# Altium footprint library PCB - CONNECTOR - WURTH - 61202021621.PcbLib: 1 footprints
Each footprint in its own frame and in the unit in brackets; x right, y up, seen from the top. Pads: shape width x height; smd on the part's side, far side on the other; paste and mask are expansions set on the pad; w line width, h text height; cw(c..) or ccw(c..) is an arc to the next point about the centre after c.
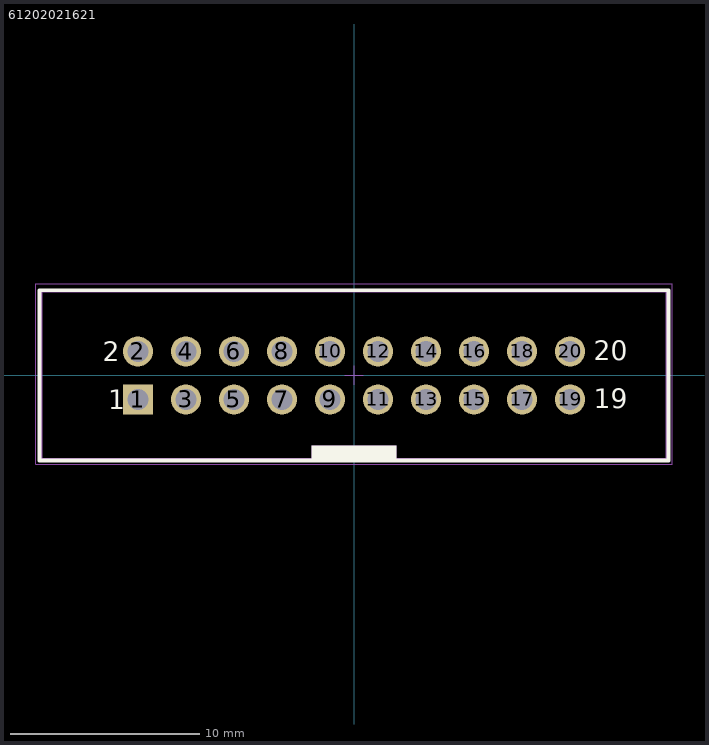
[diagram p0: the footprint, top view; thin cyan lines are the x and y axes]

## 61202021621 [mm] "20 pins, straight, gold plating"
height 9.1
pads (20):
  rect 1.6x1.6 hole 1.1: 1(-11.43,-1.27)
  round 1.6 hole 1.1: 2(-11.43,1.27) 3(-8.89,-1.27) 4(-8.89,1.27) 5(-6.35,-1.27) 6(-6.35,1.27) 7(-3.81,-1.27) 8(-3.81,1.27) 9(-1.27,-1.27) 10(-1.27,1.27) 11(1.27,-1.27) 12(1.27,1.27) 13(3.81,-1.27) 14(3.81,1.27) 15(6.35,-1.27) 16(6.35,1.27) 17(8.89,-1.27) 18(8.89,1.27) 19(11.43,-1.27) 20(11.43,1.27)
Top Overlay:
  rectangle: -2.25,-4.5 2.25,-3.7
  lines w0.2: -16.63,-4.5 16.63,-4.5 16.63,4.5 -16.63,4.5 -16.63,-4.5
  text "19" at 12.69,-1.74 h1.02
  text "20" at 12.69,0.8 h1.02
  text "1" at -12.99,-1.8 h1.02
  text "2" at -13.29,0.74 h1.02
Top Assembly:
  rectangle: -2.25,-4.425 2.25,-3.7
  lines w0.05: -16.83,-4.7 16.83,-4.7 16.83,4.85 -16.83,4.85 -16.83,-4.7
  lines w0.1: -16.53,-4.425 16.53,-4.425 16.53,4.425 -16.53,4.425 -16.53,-4.425
Top Component Center:
  lines w0.05: -0.5,0 0.5,0 ; 0,-0.5 0,0.5
3D body "61202021621.stp": height 9.13, standoff -2.98, extent -16.53,-4.425 16.53,4.75